# EAGLE library part BEE-SOCKET (library moudle)
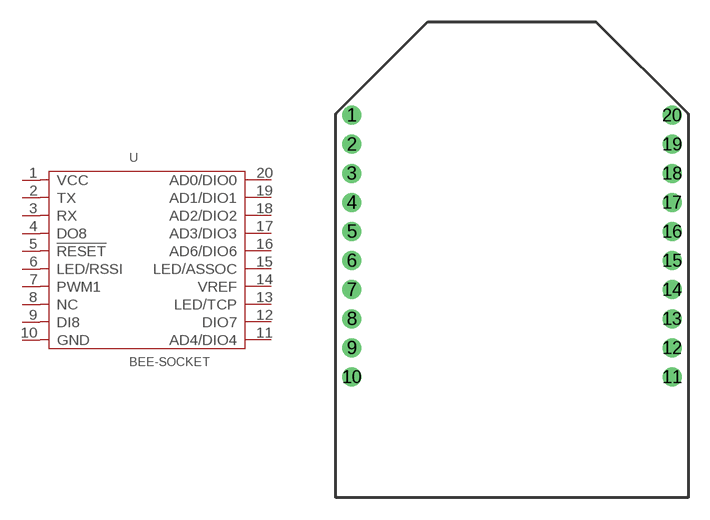
[diagram p23: symbol with the pads of 20P-DIP-2.0-PRO/NO-SILK; footprint 20P-DIP-2.0-PRO/NO-SILK]

Designator prefix U

## BEE-SOCKET  [20P-DIP-2.0-PRO/NO-SILK]
1  VCC
2  TX
3  RX
4  DO8
5  !RESET
6  LED/RSSI
7  PWM1
8  NC
9  DI8
10  GND
11  AD4/DIO4
12  DIO7
13  LED/TCP
14  VREF
15  LED/ASSOC
16  AD6/DIO6
17  AD3/DIO3
18  AD2/DIO2
19  AD1/DIO1
20  AD0/DIO0

## Footprint 20P-DIP-2.0-PRO/NO-SILK (pad centres in mm)
drill 0.8 pad 1.27: 1 -11.127,9.889; 2 -11.127,7.889; 3 -11.127,5.889; 4 -11.127,3.889; 5 -11.127,1.889; 6 -11.127,-0.111; 7 -11.127,-2.111; 8 -11.127,-4.111; 9 -11.127,-6.111; 10 -11.127,-8.111; 11 10.873,-8.111; 12 10.873,-6.111; 13 10.873,-4.111; 14 10.873,-2.111; 15 10.873,-0.111; 16 10.873,1.889; 17 10.873,3.889; 18 10.873,5.889; 19 10.873,7.889; 20 10.873,9.889